# Altium schematic symbol library mPCIE.Schlib: 1 symbol
Pins are listed as number, name and electrical type; pins without a type are passive.

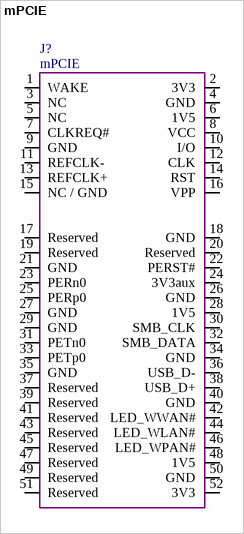
[diagram p0: symbol mPCIE]

## mPCIE
designator J?
mini PCI express connector
pins: 1 WAKE, 2 3V3, 3 NC, 4 GND, 5 NC, 6 1V5, 7 CLKREQ#, 8 VCC, 9 GND, 10 I/O, 11 REFCLK-, 12 CLK, 13 REFCLK+, 14 RST, 15 NC / GND, 16 VPP, 17 Reserved, 18 GND, 19 Reserved, 20 Reserved, 21 GND, 22 PERST#, 23 PERn0, 24 3V3aux, 25 PERp0, 26 GND, 27 GND, 28 1V5, 29 GND, 30 SMB_CLK, 31 PETn0, 32 SMB_DATA, 33 PETp0, 34 GND, 35 GND, 36 USB_D-, 37 Reserved, 38 USB_D+, 39 Reserved, 40 GND, 41 Reserved, 42 LED_WWAN#, 43 Reserved, 44 LED_WLAN#, 45 Reserved, 46 LED_WPAN#, 47 Reserved, 48 1V5, 49 Reserved, 50 GND, 51 Reserved, 52 3V3
2 alternate drawings of the same symbol